# EAGLE library part CONNECTOR-6 (library marius)
6-pin connectors
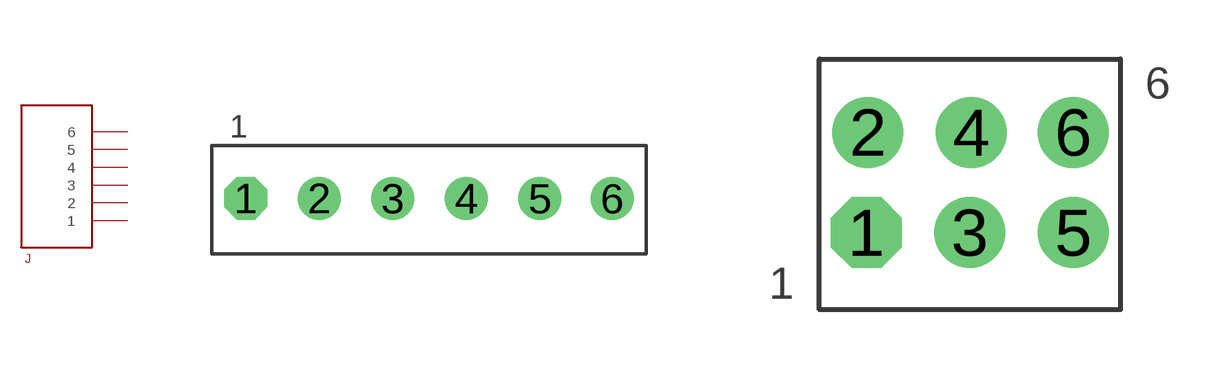
[diagram p5: symbol with the pads of HEADER-6; footprints HEADER-6, HEADER-3X2]

Designator prefix J

## CONNECTOR-6HEADER  [HEADER-6]
1  1
2  2
3  3
4  4
5  5
6  6

## CONNECTOR-6HEADERX2  [HEADER-3X2]
Pads as for HEADER-6

## CONNECTOR-6JST-XH-6-SMT (MPN: S6B-XH-SM4-TB(LF)(SN))  [JST-XH-6-SMT]
Pads as for HEADER-6

## Footprint HEADER-6 (pad centres in mm)
5-pin JST PH Shrouded Header 2.0mm pitch P/N B5B-PH-K-S. Mating plug PHR-5
drill 1 octagon: 1 -6.43,0.048
drill 1: 2 -3.85,0.048; 3 -1.27,0.048; 4 1.31,0.048; 5 3.89,0.048; 6 6.43,0.048

## Footprint HEADER-3X2 (pad centres in mm)
5-pin JST PH Shrouded Header 2.0mm pitch P/N B5B-PH-K-S. Mating plug PHR-5
drill 1 pad 1.8 octagon: 1 -6.43,0.048
drill 1 pad 1.8: 2 -6.39,2.587; 3 -3.81,0.048; 4 -3.77,2.587; 5 -1.19,0.048; 6 -1.19,2.587

## Footprint JST-XH-6-SMT (pad centres in mm)
smd 1.3 x 4.5: 1 -6.25,2.25; 2 -3.75,2.25; 3 -1.25,2.25; 4 1.25,2.25; 5 3.75,2.25; 6 6.25,2.25
smd 1.8 x 3.9: P1 -9.45,-4.55; P2 9.45,-4.55